# Altium integrated library Alex_CONNECTOR.IntLib: 40 symbols
Pins are listed as number, name and electrical type; pins without a type are passive.

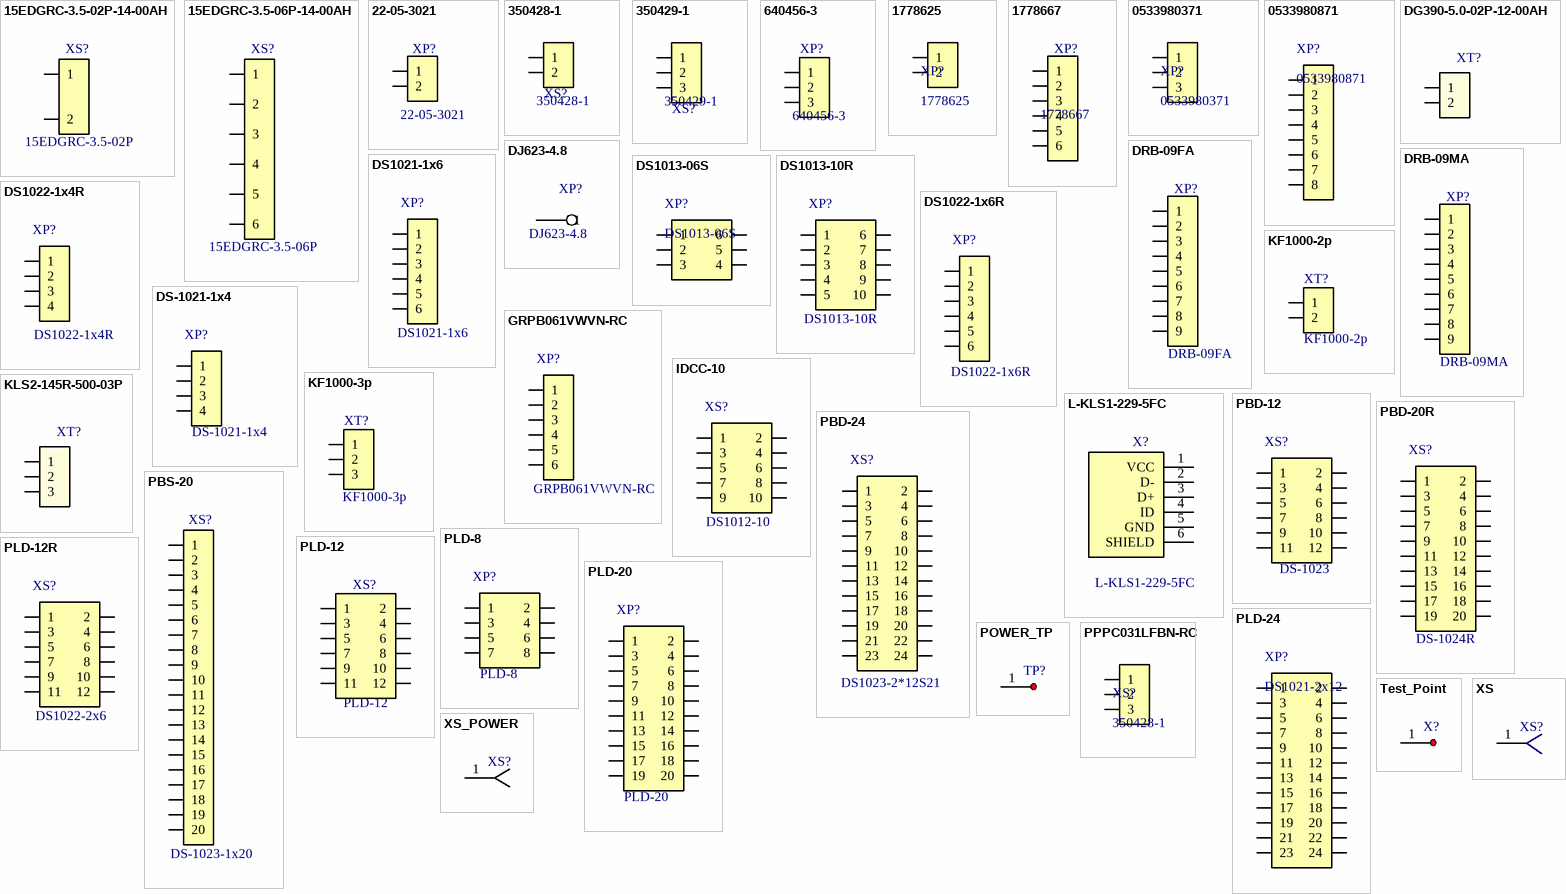
[diagram p0: symbols 15EDGRC-3.5-02P-14-00AH to XS_POWER]

## 15EDGRC-3.5-02P-14-00AH
designator XS?, comment 15EDGRC-3.5-02P
CONN HEADER 2POS VERT .250 TIN; Manufacturer: DEGSON; PVoltage: 8A,300V; ValueDesc: Клеммная колодка 15EDGRC-3.5-02P  вилка 2pin шаг 3.5мм  8A,300V  DEGSON; Package: вилка 2pin шаг 3.5мм; Price: 0,44; Documentation: https://belchip.by/sitedocs/34081.pdf; ShoppingPlace: https://belchip.by/product/?selected_product=34081; Quantity: 1; Value: 15EDGRC-3.5-02P; Part Number: 15EDGRC-3.5-02P
footprint 15EDGRC-3.5-02P-14-00AH
pins: 1, 2

## 15EDGRC-3.5-06P-14-00AH
designator XS?, comment 15EDGRC-3.5-06P
вилка 6pin шаг 3.5мм на плату; Manufacturer: DEGSON; PVoltage: 8A,300V; ValueDesc: Клеммная колодка 15EDGRC-3.5-06P  вилка 6pin шаг 3.5мм  8A,300V  DEGSON; Package: вилка 6pin шаг 3.5мм; Price: 1.4; Documentation: https://belchip.by/product/?selected_product=34085; ShoppingPlace: https://belchip.by/product/?selected_product=34085; Quantity: 1; Value: 15EDGRC-3.5-06P; ComponentLink1Description: DEGSTON; ComponentLink1URL: https://belchip.by/sitedocs/34073.pdf; Part Number: 15EDGRC-3.5-06P
footprint 15EDGRC-3.5-06P-14-00AH
pins: 1, 2, 3, 4, 5, 6

## 22-05-3021
designator XP?
Connector Header Through Hole, Right Angle 2 position 0.100" (2.54mm); Manufacturer: Molex, LLC; Power: 4 A, 250V; Part Number: 22-05-3021; Package: Connector Header Through Hole, Right Angle 2 position 0.100" (2.54mm); Price: 0,34; Documentation: https://www.molex.com/pdm_docs/sd/022053021_sd.pdf; ShoppingPlace: https://www.digikey.com/products/en?keywords=22-05-3021; Quantity: *
footprint 22-05-3021
pins: 1, 2

## 350428-1
designator XS?
CONN HEADER 2POS VERT .250 TIN; Manufacturer: TE Connectivity AMP Connectors; Part Number: 350428-1; Package: Through Hole 2 position 0.250" (6.35mm); Price: 0,44; Documentation: https://www.te.com/commerce/DocumentDelivery/DDEController?Action=srchrtrv&DocNm=350428&DocType=Customer+Drawing&DocLang=English; ShoppingPlace: https://www.digikey.com/products/en?keywords=350428-1; Quantity: *
footprint 350428-1 (Connector Header Through Hole 2 position 0.250" (6.35mm))
pins: 1, 2

## 350429-1
designator XS?
Connector Header Through Hole 3 position 0.250" (6.35mm); Manufacturer: TE Connectivity AMP Connectors; Part Number: 350429-1; Package: Connector Header Through Hole 3 position 0.250" (6.35mm); Price: 0,44; Documentation: https://www.te.com/commerce/DocumentDelivery/DDEController?Action=srchrtrv&DocNm=350429&DocType=Customer+Drawing&DocLang=English; ShoppingPlace: https://www.digikey.com/products/en?keywords=350429-1; Quantity: *
footprint 350429-1
pins: 1, 2, 3

## 640456-3
designator XP?
Connector Header Through Hole 3 position 0.100" (2.54mm); Manufacturer: TE Connectivity AMP Connectors; Power: 250VAC; Tolerance: -55°C ~ 105°C; ValueDesc: Вилка прямая 640456-3  Through Hole 3 position 0.100" (2.54mm)  TE Connectivity AMP Connectors; Part Number: 640456-3; Package: Through Hole 3 position 0.100" (2.54mm); Price: 0,13; Documentation: https://www.te.com/commerce/DocumentDelivery/DDEController?Action=srchrtrv&DocNm=640456&DocType=Customer+Drawing&DocLang=English; ShoppingPlace: https://www.digikey.com/product-detail/en/te-connectivity-amp-connectors/640456-3/A19470-ND/259010; Quantity: 1; Value: 640456-3
footprint Header Through Hole 3 position 0.100" (2.54mm)
pins: 1, 2, 3

## 1778625
designator XP?
TERM BLOCK HDR 6POS 90DEG 2.5MM; Manufacturer: Phoenix Contact; Power: 6A 160V; Value: 6A 160V; Tolerance: -40°C ~ 125°C; Part Number: 1778625; Package: 2 Position Terminal Block Header, Male Pins, Shrouded (4 Side) 0.098" (2.50mm) 90°, Right Angle Through Hole; Price: 0,42; Documentation: https://media.digikey.com/PDF/Data%20Sheets/Phoenix%20Contact%20PDFs/1778625.pdf; ShoppingPlace: https://www.digikey.com/product-detail/en/phoenix-contact/1778625/277-2308-1-ND/2625578; Quantity: *
footprint 1778625-2
pins: 1, 2

## 1778667
designator XP?
TERM BLOCK HDR 6POS 90DEG 2.5MM; Manufacturer: Phoenix Contact; Power: 6A 160V; Value: 6A 160V; Tolerance: -40°C ~ 125°C; Part Number: 1778667; Package: 6 Position Terminal Block Header, Male Pins, Shrouded (4 Side) 0.098" (2.50mm) 90°, Right Angle Through Hole; Price: 1,35; Documentation: https://media.digikey.com/PDF/Data%20Sheets/Phoenix%20Contact%20PDFs/1778667.pdf; ShoppingPlace: https://www.digikey.com/product-detail/en/phoenix-contact/1778667/277-2312-1-ND/2625582; Quantity: *
footprint 1778667
pins: 1, 2, 3, 4, 5, 6

## 0533980371
designator XP?
3 Position Header Connector 0.100" (2.54mm) Through Hole Gold; Manufacturer: Molex, LLC; Power: 1A 150V; Value: 1A 150V; Tolerance: -40°C ~ 105°C; Part Number: 0533980371; Package: Connector Header Surface Mount 3 position 0.049" (1.25mm); Price: 0,56; Documentation: https://www.molex.com/pdm_docs/sd/533980371_sd.pdf; ShoppingPlace: https://www.digikey.com/product-detail/en/molex-llc/0533980371/WM7607TR-ND/699067; Quantity: *
footprint 053398-0371
pins: 1, 2, 3

## 0533980871
designator XP?
Connector Header Surface Mount 8 position 0.049" (1.25mm); Manufacturer: MOLEX; Power: 1A 125V; Value: 1A 125V; Tolerance: -40°C ~ 125°C; ValueDesc: Вилка прямая +'PartNumber'+'Package'+'Manufacturer'; Part Number: 0533980871; Package: 8 position 0.049"; Price: 1,59; Documentation: https://www.molex.com/pdm_docs/sd/533980871_sd.pdf; ShoppingPlace: https://www.digikey.com/product-detail/en/molex/0533980871/WM7612DKR-ND/1846782; Quantity: 1; ComponentLink1Description: MOLEX; ComponentLink1URL: https://www.molex.com/pdm_docs/sd/533980871_sd.pdf
footprint 053398-0871
pins: 1, 2, 3, 4, 5, 6, 7, 8

## DG390-5.0-02P-12-00AH
designator XT?
Terminal Block 2pin pitch  5mm,; Manufacturer: DEGSON; Part Number: DG390-5.0-02P-12-00AH; Power: 8A,250V; ValueDesc: DG390-5.0-02P-12-00AH Клеммник DEGSON  15x10.65x19.8; ValueType: Connector; Value: 250V,8A; Price: 0.6; ComponentLink1Description: DEGSON; ComponentLink1URL: http://files.xn--e1agecchai.xn--p1ai/pdf/dg390-5.0.pdf; Package: 15x10.65x19.8; ShoppingPlace: https://belchip.by/product/?selected_product=04969; Quantity: 1; Documentation: http://files.xn--e1agecchai.xn--p1ai/pdf/dg390-5.0.pdf
footprint DG390-5.0-02P-12-00A (15mmx10.65mmx19.8mm)
pins: 1, 2

## DJ623-4.8
designator XP?
Клемма на плату 5mm pitch; Manufacturer: DJ; Power: 10A 60V; Tolerance: -40°C ~ 125°C; Part Number: DJ623-4.8; Package: DJ623; Price: 0,05; Documentation: http://www.zip-2002.ru/jpg/file.php?id=00000034605; ShoppingPlace: http://alfatron.by/catalog/product/686771-klemma-na-platu-dj62348/; Quantity: 1; Value: DJ623-4.8; ComponentLink1Description: DJ datasheet; ComponentLink1URL: http://www.zip-2002.ru/jpg/file.php?id=00000034605; ValueDesc: ='Контакт угловой '+Value'  '+Package+'  '+Manufacturer
footprint DJ623-4.8
pins: 1

## DRB-09FA
designator XP?
9 Position D-Sub Receptacle, Female Sockets Connector; Manufacturer: KLS; Power: 250V; Tolerance: -40°C ~ 125°C; ValueDesc: Розетка DRB-09FA  9 Position D-Sub Receptacle  KLS; Package: 9 Position D-Sub Receptacle; Price: 0,35; Documentation: https://belchip.by/sitedocs/00001955.pdf; ShoppingPlace: https://belchip.by/product/?selected_product=03408; Quantity: 1; Value: DRB-09FA; ComponentLink1Description: KLS; ComponentLink1URL: https://belchip.by/sitedocs/00001955.pdf; Part Number: DRB-09FA
footprint DRB-09FZ (30.84mm x 18.5mm 12.5mm)
pins: 1, 2, 3, 4, 5, 6, 7, 8, 9

## DRB-09MA
designator XP?
9 Position D-Sub Receptacle, male Sockets Connector; Manufacturer: KLS; PVoltage: 250V; Tolerance: -40°C ~ 125°C; ValueDesc: Вилка DRB-09MA  9 Position D-Sub Receptacle  KLS; Package: 9 Position D-Sub Receptacle; Price: 0,35; Documentation: https://static.chipdip.ru/lib/500/DOC001500527.pdf; ShoppingPlace: https://belchip.by/product/?selected_product=02569; Quantity: 1; Value: DRB-09MA; ComponentLink1Description: KLS; ComponentLink1URL: https://belchip.by/sitedocs/00001955.pdf; Part Number: DRB-09MA
footprint DRB-09MZ (30.84mm x 18.5mm 12.5mm)
pins: 1, 2, 3, 4, 5, 6, 7, 8, 9

## DS1013-06S
designator XP?
BH-06 (IDC-06MS) (DS1013-06S), Вилка на плату прямая 6 конт. 2.54мм; Manufacturer: Ningbo connfly electronic; Power: 2A 60V; Tolerance: -40°C ~ 125°C; ValueDesc: Вилка DS1013-06S  DS1013  Ningbo connfly electronic; Part Number: DS1013-06S; Package: DS1013; Price: 0,09; Documentation: https://static.chipdip.ru/lib/463/DOC002463525.pdf; ShoppingPlace: https://www.chipdip.by/product/idc-06ms-bh-06; Quantity: 1; Value: DS1013-06S; ComponentLink1Description: Ningo; ComponentLink1URL: https://static.chipdip.ru/lib/463/DOC002463525.pdf
footprint DS1013-06S (6конт. 2.54мм)
pins: 1, 2, 3, 4, 5, 6

## DS1013-10R
designator XP?
BH-10R (DS1013-10R) (IDC-10MR), Вилка на плату угловая 10 конт. 2.54мм; Manufacturer: Ningbo connfly electronic; Power: 2A 60V; Tolerance: -40°C ~ 125°C; Part Number: DS1013-10R; Package: DS1013; Price: 0,09; Documentation: https://static.chipdip.ru/lib/463/DOC002463525.pdf; ShoppingPlace: https://www.chipdip.by/product/idc-10mr; Quantity: 1; Value: DS1013-10R; ComponentLink1Description: Ningo; ComponentLink1URL: https://static.chipdip.ru/lib/463/DOC002463525.pdf; ValueDesc: ='Вилка '+Value'  '+Package+'  '+Manufacturer
footprint BH-10R_angle (10 конт. 2.54мм)
pins: 1, 2, 3, 4, 5, 6, 7, 8, 9, 10

## DS1021-1x6
designator XP?
PLS-6 (DS1021-1x6), Вилка штыревая 2.54мм 1x6 прямая тип1; Manufacturer: Ningbo connfly electronic; Power: 1A 125V; Tolerance: -40°C ~ 125°C; ValueDesc: Вилка прямая DS1021-1x6  2.54мм 1x6  Ningbo connfly electronic; Part Number: DS1021-1x6; Package: 2.54мм 1x6; Price: 0,08; Documentation: https://static.chipdip.ru/lib/227/DOC000227157.pdf; ShoppingPlace: https://www.chipdip.by/product/pls-6; Quantity: 1; Value: DS1021-1x6; ComponentLink1Description: Ningbo connfly electronic; ComponentLink1URL: https://static.chipdip.ru/lib/227/DOC000227157.pdf
footprint DS1021 (Вилка штыревая 2.54мм 1x6)
pins: 1, 2, 3, 4, 5, 6

## DS1022-1x4R
designator XP?
PLS-4R (DS1022-1x4R), Вилка штыревая 2.54мм 1х4 угловая (тип D1); Manufacturer: Ningbo connfly electronic; Power: 1A 125V; Value: 1A 125V; Tolerance: -40°C ~ 125°C; ValueDesc: Вилка угловая +'PartNumber'+'Package'+'Manufacturer'; Part Number: DS1022-1x4R; Package: 2.54мм 1x4; Price: 0,08; Documentation: https://static.chipdip.ru/lib/227/DOC000227157.pdf; ShoppingPlace: https://www.chipdip.by/product/pls-4r; Quantity: 1; ComponentLink1Description: Ningbo connfly electronic; ComponentLink1URL: https://static.chipdip.ru/lib/227/DOC000227157.pdf
footprint DS1022-1x4R (Вилка штыревая 2.54мм 1x4)
pins: 1, 2, 3, 4

## DS1022-1x6R
designator XP?
PLS-6R (DS1022-1x6R), Вилка штыревая 2.54мм 1х6 угловая (тип D1); Manufacturer: Ningbo connfly electronic; Power: 1A 125V; Value: 1A 125V; Tolerance: -40°C ~ 125°C; ValueDesc: Вилка углавая +'PartNumber'+'Package'+'Manufacturer'; Part Number: DS1022-1x6R; Package: 2.54мм 1x6; Price: 0,08; Documentation: https://static.chipdip.ru/lib/227/DOC000227157.pdf; ShoppingPlace: https://www.chipdip.by/product/pls-6r; Quantity: 1; ComponentLink1Description: Ningbo connfly electronic; ComponentLink1URL: https://static.chipdip.ru/lib/227/DOC000227157.pdf
footprint DS1022 (Вилка штыревая 2.54мм 1x6)
pins: 1, 2, 3, 4, 5, 6

## DS-1021-1x4
designator XP?
PLS-4 (DS-1021-1x4), Вилка штыревая 2.54мм 1x4 прямая тип1; Manufacturer: Ningbo connfly electronic; Power: 1A 125V; Value: 1A 125V; Tolerance: -40°C ~ 125°C; ValueDesc: Вилка прямая +'PartNumber'+'Package'+'Manufacturer'; Part Number: DS-1021-1x4; Package: 2.54мм 1x4; Price: 0,08; Documentation: https://static.chipdip.ru/lib/227/DOC000227157.pdf; ShoppingPlace: https://www.chipdip.by/product/pls-4; Quantity: 1; ComponentLink1Description: Ningbo connfly electronic; ComponentLink1URL: https://static.chipdip.ru/lib/227/DOC000227157.pdf
footprint DS-1021-1x4 (Вилка штыревая 2.54мм 1x4)
pins: 1, 2, 3, 4

## GRPB061VWVN-RC
designator XP?
Connector Header Through Hole 6 position 0.050" (1.27mm); Manufacturer: Sullins Connector Solutions; Power: 1A 125V; Value: 1A 125V; Tolerance: -40°C ~ 125°C; Part Number: GRPB061VWVN-RC; Package: 1.27мм 1x6; Price: 0,48; Documentation: https://s3.amazonaws.com/catalogspreads-pdf/PAGE94-95%20.050%20MALE%20HDR%20ST%20RA%20SMT.pdf; ShoppingPlace: https://www.digikey.com/products/en?keywords=GRPB061VWVN-RC; Quantity: 1; ComponentLink1Description: Ningbo connfly electronic; ComponentLink1URL: https://static.chipdip.ru/lib/227/DOC000227157.pdf; ValueDesc: =Вилка прямая +'PartNumber'+'Package'+'Manufacturer'
footprint GRPB061VWVN-RC (Connector Header Through Hole 6 position 0.050" (1.27mm))
pins: 1, 2, 3, 4, 5, 6

## IDCC-10
designator XS?, comment DS1012-10
Вилка 2.54мм на шлейф с защелкой; Manufacturer: Ningbo connfly electronic; Power: 1A 250V; Tolerance: -40°C ~ 125°C; Package: 2.54мм 2х5; Price: 0,6; Documentation: https://static.chipdip.ru/lib/274/DOC000274138.pdf; ShoppingPlace: https://www.chipdip.by/product/idcc-10; Quantity: 1; Value: DS1012-10; ComponentLink1Description: Ningbo connfly electronic; ComponentLink1URL: https://static.chipdip.ru/lib/274/DOC000274138.pdf; ValueDesc: ='Вилка '+Value'  '+Package+'  '+Manufacturer; Part Number: DS1012-10
footprint IDCC-10 (32mmx8mm)
pins: 1, 2, 3, 4, 5, 6, 7, 8, 9, 10

## KF1000-2p
designator XT?
KF1000-2P/3 p PCB винт Клеммная колодка Разъем Шаг 10 мм 2PIN 3 PIN KF1000 2 P; Manufacturer: China; Power: 300VAC,25A; Value: 300VAC,25A; Tolerance: -40°C ~ 105°C; Package: Through Hole 2 position 0.100" (2.54mm); Price: 0,2; Documentation: https://ru.aliexpress.com/item/32850645228.html; ShoppingPlace: https://ru.aliexpress.com/item/32850645228.html; Quantity: 1; ComponentLink1Description: China; ComponentLink1URL: https://ru.aliexpress.com/item/32850645228.html; ValueDesc: =Клеммник+'  '+Package+' '+Power+ ' '+Manufacturer' '; Part Number: KF1000-2p
footprint KF1000-2p (3-mm x14.5mm x 14.6mm)
pins: 1, 2

## KF1000-3p
designator XT?
KF1000-2P/3 p PCB винт Клеммная колодка Разъем Шаг 10 мм 2PIN 3 PIN KF1000 2 P; Manufacturer: China; Power: 300VAC,25A; Value: 300VAC,25A; Tolerance: -40°C ~ 105°C; Package: Through Hole 3 position 0.100" (2.54mm); Price: 0,2; Documentation: https://ru.aliexpress.com/item/32850645228.html; ShoppingPlace: https://ru.aliexpress.com/item/32850645228.html; Quantity: 1; ComponentLink1Description: China; ComponentLink1URL: https://ru.aliexpress.com/item/32850645228.html; ValueDesc: =Клеммник+'  '+Package+' '+Power+ ' '+Manufacturer' '; Part Number: KF1000-3p
footprint KF1000-3p (3-mm x14.5mm x 14.6mm)
pins: 1, 2, 3

## KLS2-145R-500-03P
designator XT?
Terminal Block 3pin pitch  5mm,; Manufacturer: KLS; Part Number: KLS2-145R-500-03P; ShoppingPlace: Шаг 4.2; ValueDesc: KLS2-145R-500-03P Клеммник KLS  9.75х22.2mm; ValueType: Connector; Value: 250V,8A; Price: 0.79; ComponentLink1Description: KLS; ComponentLink1URL: https://belchip.by/product/?selected_product=02491; Package: 9.75х22.2mm; Documentation: https://belchip.by/product/?selected_product=02491
footprint KLS2-145R-500-03P (15mmx14.6x15mm)
pins: 1, 2, 3

## L-KLS1-229-5FC
designator X?
гнездо mini USB B 5pin прямое (M5); Manufacturer: KLS; Power: 1A, 5V; Package: pitch 1.6mm; Price: 0,22; Documentation: https://belchip.by/sitedocs/00007959.pdf; ShoppingPlace: https://belchip.by/product/?selected_product=07959; Quantity: 1; Value: L-KLS1-229-5FC; ComponentLink1Description: KLS; ComponentLink1URL: https://belchip.by/sitedocs/00007959.pdf; ValueDesc: =USB mini  ' '+Value+'  '+Package+'+Power+ ' '+Manufacturer; Part Number: L-KLS1-229-5FC
footprint L-KLS1-229-5FC (гнездо mini USB B 5pin прямое (M5))
pins: 1 VCC, 2 D-, 3 D+, 4 ID, 5 GND, 6 SHIELD

## PBD-12
designator XS?, comment DS-1023
PBD-12 (DS1023-2x6), Гнездо на плату 2.54мм 2х6; Manufacturer: Ningbo connfly electronic; Power: 1A 250V; Value: DS-1023 - 2x6; Tolerance: -40°C ~ 125°C; Package: 2.54мм 2х10; Price: 0,25; Documentation: https://static.chipdip.ru/lib/226/DOC000226931.pdf; ShoppingPlace: https://www.chipdip.by/product/pbd-20r; Quantity: 1; ComponentLink1Description: Ningbo connfly electronic; ComponentLink1URL: https://static.chipdip.ru/lib/226/DOC000226931.pdf; ValueDesc: ='Розетка прямая '+Value'  '+Package+'  '+Manufacturer; Part Number: DS-1023
footprint PBD-12 (15.24mmx8.5mm5mm)
pins: 1, 2, 3, 4, 5, 6, 7, 8, 9, 10, 11, 12

## PBD-20R
designator XS?, comment DS-1024R
PBD-20R (DS1023-2x12), Гнездо на плату 2.54мм 2х10 угловое; Manufacturer: Ningbo connfly electronic; Power: 1A 250V; Value: DS-1024 - 2x10 - R; Tolerance: -40°C ~ 125°C; Package: 2.54мм 2х10; Price: 0,25; Documentation: https://static.chipdip.ru/lib/226/DOC000226931.pdf; ShoppingPlace: https://www.chipdip.by/product/pbd-20r; Quantity: 1; ComponentLink1Description: Ningbo connfly electronic; ComponentLink1URL: https://static.chipdip.ru/lib/226/DOC000226931.pdf; ValueDesc: ='Розетка угловая '+Value'  '+Package+'  '+Manufacturer; Part Number: DS-1024R
footprint PBD-20R (50.8mmx8.5mm5mm)
pins: 1, 2, 3, 4, 5, 6, 7, 8, 9, 10, 11, 12, 13, 14, 15, 16, 17, 18, 19, 20

## PBD-24
designator XS?, comment DS1023-2*12S21
PBD-24 (DS1023-2x12), Гнездо на плату 2.54мм 2х12 прямое; Manufacturer: Ningbo connfly electronic; Power: 1A 250V; Tolerance: -40°C ~ 125°C; ValueDesc: Розетка+'Part Number'+'Power'+'Package'+'Manufacturer'; Part Number: DS1023-2*12S21; Package: 2.54мм 2х12; Price: 0,25; Documentation: https://static.chipdip.ru/lib/226/DOC000226931.pdf; ShoppingPlace: https://www.chipdip.by/product/pbd-24; Quantity: 1; Value: DS1023-2*12S21; ComponentLink1Description: Ningbo connfly electronic; ComponentLink1URL: https://static.chipdip.ru/lib/226/DOC000226931.pdf
footprint PBD-24
pins: 1, 2, 3, 4, 5, 6, 7, 8, 9, 10, 11, 12, 13, 14, 15, 16, 17, 18, 19, 20, 21, 22, 23, 24

## PBS-20
designator XS?, comment DS-1023-1x20
PBs-20, Гнездо на плату 2.54мм1х20; Manufacturer: Ningbo connfly electronic; Power: 1A 250V; Tolerance: -40°C ~ 125°C; Package: 2.54мм 1х20; Price: 0,25; Documentation: https://static.chipdip.ru/lib/226/DOC000226931.pdf; ShoppingPlace: https://www.chipdip.by/product/pbs20; Quantity: 1; Value: DS-1023 - 1x20; ComponentLink1Description: Ningbo connfly electronic; ComponentLink1URL: https://static.chipdip.ru/lib/226/DOC000226931.pdf; ValueDesc: ='Розетка прямая '+Value'  '+Package+'  '+Manufacturer; Part Number: DS-1023-1x20
footprint PBS-20
pins: 1, 2, 3, 4, 5, 6, 7, 8, 9, 10, 11, 12, 13, 14, 15, 16, 17, 18, 19, 20

## PLD-8
designator XP?
PLD-8, Вилка штыревая 2.54мм 2x4mm  прямая тип1; Manufacturer: CONNFLY; Power: 1A, 125V; Value: 1A ,125V; Tolerance: -40°C ~ 125°C; Part Number: PLD-8; Package: 2.54мм 2x8; Price: 0,12; Documentation: https://belchip.by/sitedocs/34314.pdf; ShoppingPlace: https://belchip.by/product/?selected_product=34314; Quantity: 1; ComponentLink1Description: Ningbo connfly electronic; ComponentLink1URL: https://static.chipdip.ru/lib/227/DOC000227157.pdf; ValueDesc: =Вилка прямая +' '+PartNumber+' '+Package+' '+Manufacturer
footprint PLD-8
pins: 1, 2, 3, 4, 5, 6, 7, 8

## PLD-12
designator XS?
PLD-12R (DS1023-2x6),Штырь на плату 2.54мм 2х6; Manufacturer: Ningbo connfly electronic; Power: 1A 250V; Tolerance: -40°C ~ 125°C; Package: 2.54мм 2х6; Price: 0,15; Documentation: https://static.chipdip.ru/lib/226/DOC000226931.pdf; ShoppingPlace: https://www.chipdip.by/product/pbd-20r; Quantity: 1; Value: PLD-12; ComponentLink1Description: Ningbo connfly electronic; ComponentLink1URL: https://static.chipdip.ru/lib/226/DOC000226931.pdf; ValueDesc: ='Вилка угловая '+Value'  '+Package+'  '+Manufacturer; Part Number: PLD-12
footprint PLD-12 (15.24mmx5mmx13.5mm)
pins: 1, 2, 3, 4, 5, 6, 7, 8, 9, 10, 11, 12

## PLD-12R
designator XS?, comment DS1022-2x6
PLD-12R (DS1023-2x6),Штырь на плату 2.54мм 2х6 угловое; Manufacturer: Ningbo connfly electronic; Power: 1A 250V; Tolerance: -40°C ~ 125°C; Package: 2.54мм 2х6; Price: 0,25; Documentation: https://static.chipdip.ru/lib/226/DOC000226931.pdf; ShoppingPlace: https://www.chipdip.by/product/pbd-20r; Quantity: 1; Value: PLD-12R; ComponentLink1Description: Ningbo connfly electronic; ComponentLink1URL: https://static.chipdip.ru/lib/226/DOC000226931.pdf; ValueDesc: ='Вилка угловая '+Value'  '+Package+'  '+Manufacturer; Part Number: DS1022-2x6
footprint PLD-12R
pins: 1, 2, 3, 4, 5, 6, 7, 8, 9, 10, 11, 12

## PLD-20
designator XP?
PLD-20, Вилка штыревая 2.54мм 2x10 прямая тип1; Manufacturer: CONNFLY; Power: 1A, 125V; Tolerance: -40°C ~ 125°C; Part Number: PLD-20; Package: 2.54мм 2x10; Price: 0,12; Documentation: https://belchip.by/sitedocs/34314.pdf; ShoppingPlace: https://belchip.by/product/?selected_product=34314; Quantity: 1; Value: PLD-20; ComponentLink1Description: Ningbo connfly electronic; ComponentLink1URL: https://static.chipdip.ru/lib/227/DOC000227157.pdf; ValueDesc: =Вилка прямая +' '+Value+' '+Package+' '+Manufacturer
footprint PLD-20
pins: 1, 2, 3, 4, 5, 6, 7, 8, 9, 10, 11, 12, 13, 14, 15, 16, 17, 18, 19, 20

## PLD-24
designator XP?, comment DS1021-2x12
PLD-24 (DS1021-2x12), Вилка штыревая 2.54мм 2х12 прямая тип1; Manufacturer: Ningbo connfly electronic; Power: 1A 250V; Tolerance: -40°C ~ 125°C; ValueDesc: Вилка+'Part Number'+'Power'+'Package'+'Manufacturer'; Part Number: DS1021-2x12; Package: 2.54мм 2х12; Price: 0,12; Documentation: https://static.chipdip.ru/lib/227/DOC000227157.pdf; ShoppingPlace: https://www.chipdip.by/product/pld-24; Quantity: 1; Value: DS1021-2x12; ComponentLink1Description: Ningbo connfly electronic; ComponentLink1URL: https://static.chipdip.ru/lib/227/DOC000227157.pdf
footprint PLD-24
pins: 1, 2, 3, 4, 5, 6, 7, 8, 9, 10, 11, 12, 13, 14, 15, 16, 17, 18, 19, 20, 21, 22, 23, 24

## POWER_TP
designator TP?, comment 5002  (value not drawn)  (net tie, no BOM)
PC Test Point, Miniature Phosphor Bronze, Silver Plating 0.040" (1.02mm) Hole Diameter Mounting Type; Manufacturer: Keystone Electronics; ValueDesc: Точка контроля 5002Keystone Electronics; Part Number: 5002; Package: (1.02mm) Hole Diameter Mounting Type; Price: 0,35; Documentation: http://www.keyelco.com/product-pdf.cfm?p=1311; ShoppingPlace: https://www.digikey.com/product-detail/en/keystone-electronics/5002/36-5002-ND/255328; Quantity: 1; Value: 5002; ComponentLink1Description: Keystone; ComponentLink1URL: http://www.keyelco.com/product-pdf.cfm?p=1311
footprint Power_TestPoint
pins: 1

## PPPC031LFBN-RC
designator XS?, comment 350428-1
3 Position Header Connector 0.100" (2.54mm) Through Hole Gold; Manufacturer: Sullins Connector Solutions; Power: 3A 250V; Value: 3A 250V; Tolerance: -40°C ~ 105°C; Part Number: 350428-1; Package: 3 Position Header Connector 0.100" (2.54mm) Through Hole Gold; Price: 1,49; Documentation: https://drawings-pdf.s3.amazonaws.com/10492.pdf; ShoppingPlace: https://www.digikey.co.il/product-detail/en/sullins-connector-solutions/PPPC031LFBN-RC/S7036-ND/810175; Quantity: *
footprint 3-HOLE PITCH 2.54 FEMALE (3 Position Header Connector 0.100" (2.54mm) Through Hole Gold)
pins: 1, 2, 3

## Test_Point
designator X?  (net tie, no BOM)
Pad 0.5mm; Quantity: *
footprint Test_Point
pins: 1

## XS
designator XS?
HOLE 1mm; Quantity: *
footprint PAD (1mm)
pins: 1

## XS_POWER
designator XS?
HOLE 2mm; Quantity: *
footprint PAD_POWER (2mm)
pins: 1